# EAGLE library part SD_CARD (library STMBerry)
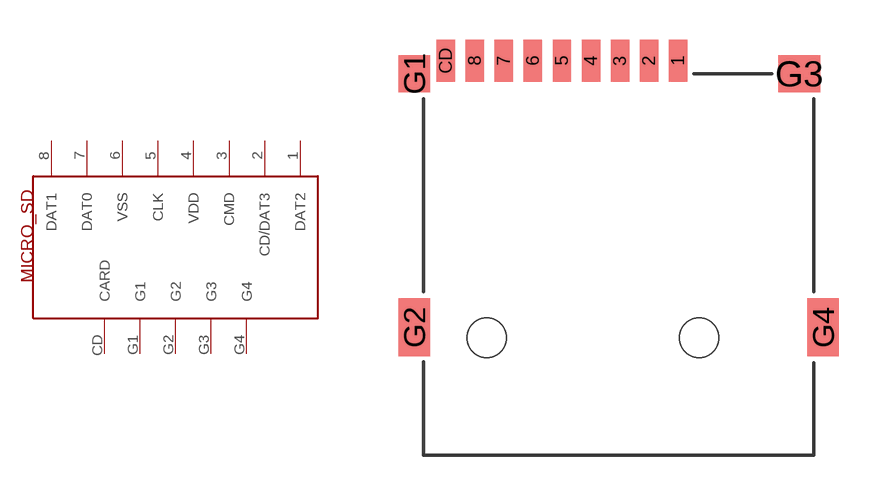
[diagram p2: symbol with the pads of SD_CARD; footprint SD_CARD]

Designator prefix -

## SD_CARD  [SD_CARD]
1  DAT2
2  CD/DAT3
3  CMD
4  VDD
5  CLK
6  VSS
7  DAT0
8  DAT1
CD  CARD
G1  G1
G2  G2
G3  G3
G4  G4

## Footprint SD_CARD (pad centres in mm)
smd 0.7 x 1.6: 1 0,0; 2 -1.1,0; 3 -2.2,0; 4 -3.3,0; 5 -4.4,0; 6 -5.5,0; 7 -6.6,0; 8 -7.7,0; CD -8.8,0
smd 1.2 x 1.4: G1 -10,-0.5
smd 1.2 x 2.2: G2 -10,-10.1; G4 5.5,-10.1
smd 1.6 x 1.4: G3 4.6,-0.5
hole 1.5 at -7.25,-10.5
hole 1.5 at 0.8,-10.5